# Altium integrated library 保险丝.IntLib: 1 symbol
Pins are listed as number, name and electrical type; pins without a type are passive.

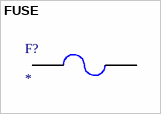
[diagram p0: symbol FUSE]

## FUSE
designator F?
footprint FUSE-1210
footprint FUSE-1812
footprint FUSE-RAD0.2
footprint FUSE-RAD
footprint FUSE-4x16
footprint FUSE-4x16_V
footprint FUSE-5x20
footprint FUSE-0402
footprint FUSE-0603
footprint FUSE-0805
footprint FUSE-1206
footprint FUSE-BLX-A
footprint 色环保险丝
pins: 1, 2